# Altium schematic symbol library C64Interface.SchLib: 38 symbols
Pins are listed as number, name and electrical type; pins without a type are passive.

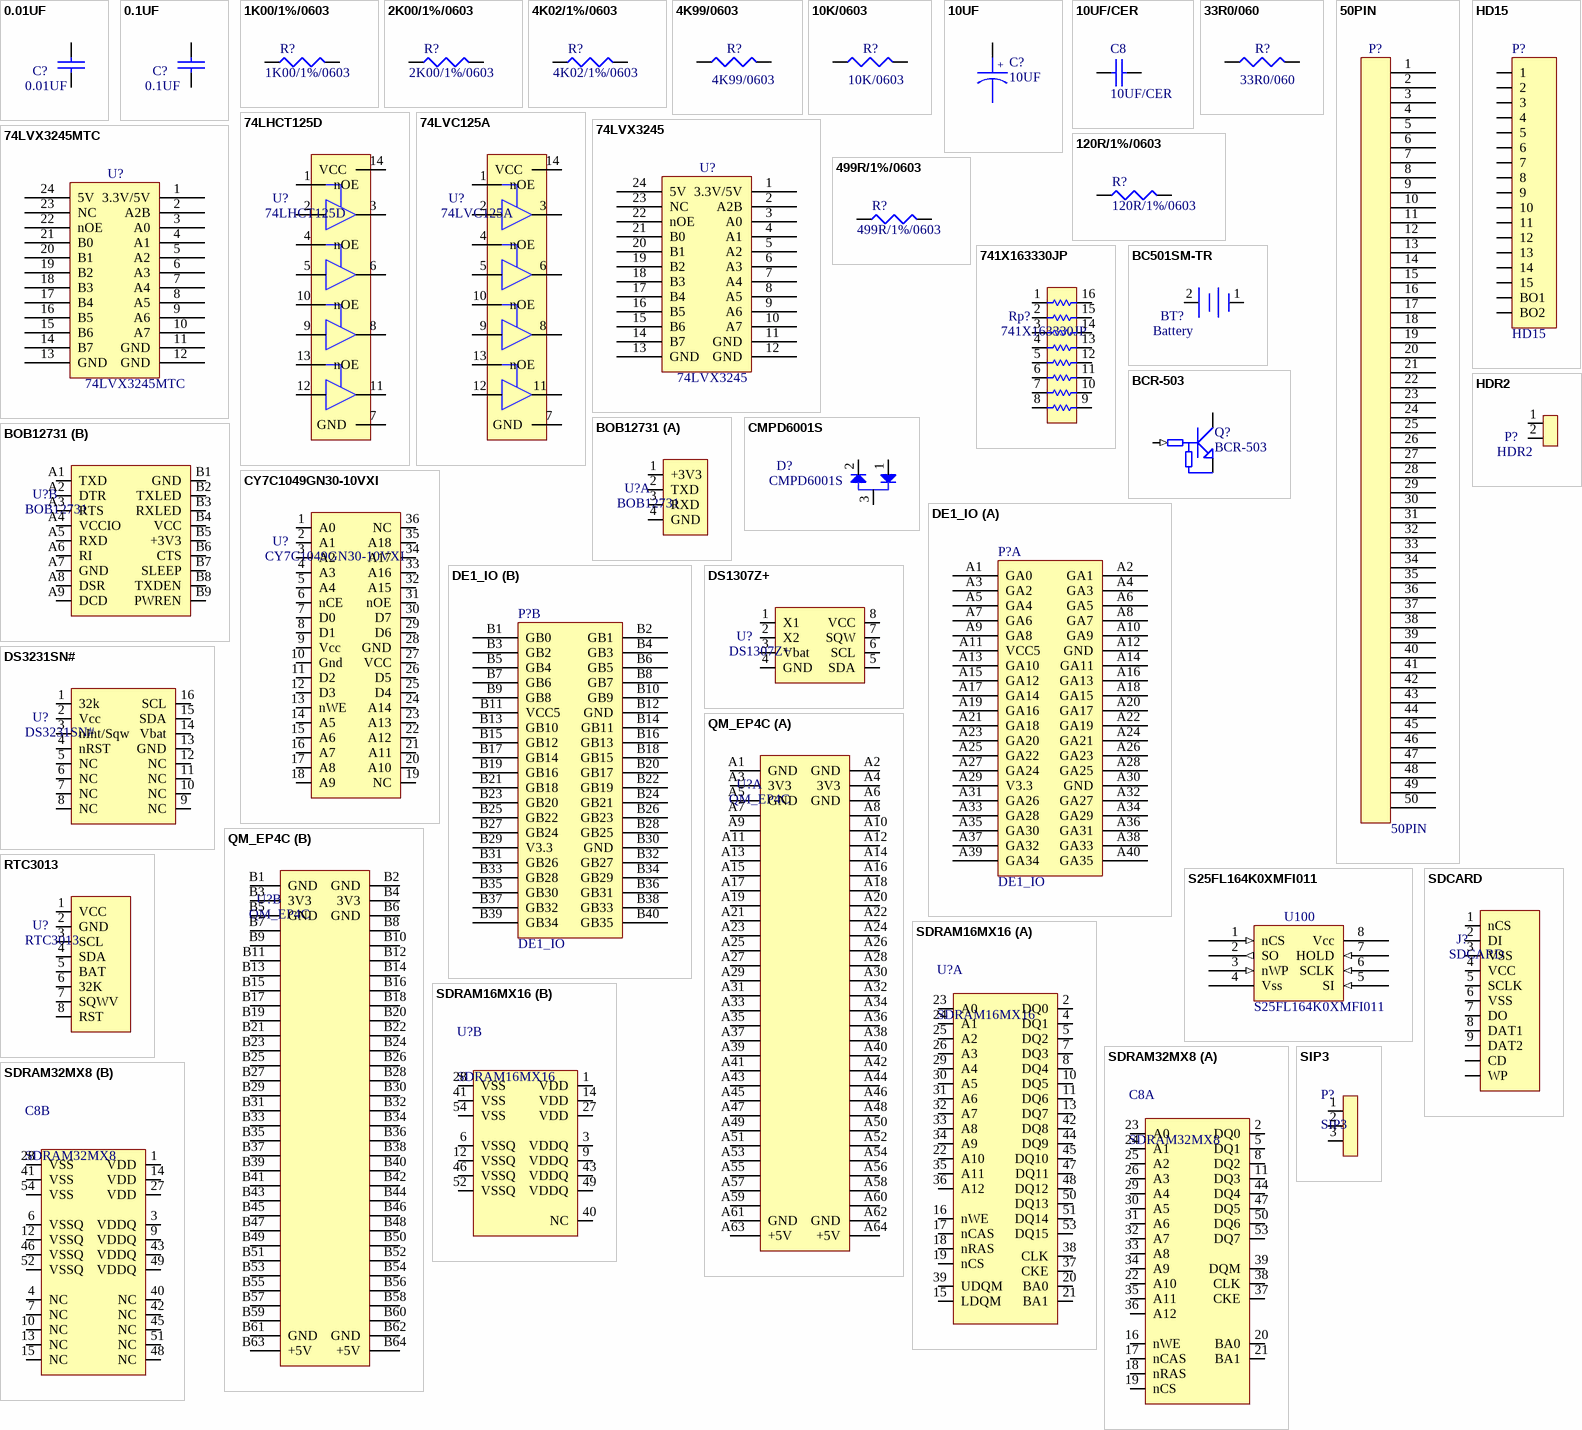
[diagram p0: symbols 0.01UF to SIP3]

## 0.01UF
designator C?
10000pF ±10% 10V Ceramic Capacitor X7R 0603 (1608 Metric); MFG: Kemet; MFG PN: C0603C103K8RACTU; DK PN: 399-11132-1-ND; Price: 1.17
footprint 0603
pins: 1, 2

## 0.1UF
designator C?
CAP .10UF 16V CERAMIC X7R 0603; MFG: Kemet; MFG PN: C0603C104K4RACTU; DK PN: 399-1096-1-ND; Price: 1.17
footprint 0603
pins: 1, 2

## 1K00/1%/0603
designator R?
1 kOhms ±1% 0.1W, 1/10W Chip Resistor 0603 (1608 Metric) Moisture Resistant Thick Film; MFG: Yeago; MFG PN: RC0603FR-071KL; DK PN: 311-1.00KHRCT-ND
footprint 0603
pins: 1, 2

## 2K00/1%/0603
designator R?
2 kOhms ±1% 0.1W, 1/10W Chip Resistor 0603 (1608 Metric) Moisture Resistant Thick Film; MFG: Yeago; MFG PN: RC0603FR-072KL; DK PN: 311-2.00KHRCT-ND
footprint 0603
pins: 1, 2

## 4K02/1%/0603
designator R?
4.02 kOhms ±1% 0.1W, 1/10W Chip Resistor 0603 (1608 Metric) Moisture Resistant Thick Film; MFG: Yeago; MFG PN: RC0603FR-074K02L; DK PN: 311-4.02KHRCT-ND
footprint 0603
pins: 1, 2

## 4K99/0603
designator R?
RES 4.99K OHM 1/10W 1% 0603 SMD; MFG: Dale/Vishay; MFG PN: CRCW06034K99FKEAC; DK PN: 541-3985-1-ND; Price: 5.02
footprint 0603
pins: 1, 2

## 10K/0603
designator R?
RES 10.0K OHM 1/10W 1% 0603 SMD; MFG: Dale/Vishay; MFG PN: CRCW060310K0FKEA; DK PN: 541-10.0KHCT-ND; Price: 5.02
footprint 0603
pins: 1, 2

## 10UF
designator C?
CAP TANTALUM 10UF 16V 10% SMD; MFG: Kemet; MFG PN: B45196H3106K109; DK PN: 495-2236-1-ND; Price: 15.58
footprint 1206
pins: 1, 2
text: +

## 10UF/CER
designator C8
10µF ±10% 25V Ceramic Capacitor X7S 0805; Text Field1: Murata; Text Field2: GRM21BC71E106KE11L; Text Field3: 490-10496-1-ND
footprint 0805
pins: 1, 2

## 33R0/060
designator R?
33 Ohms ±1% 0.1W, 1/10W Chip Resistor 0603 (1608 Metric) Moisture Resistant Thick Film; MFG: Yaego; MFG PN: RC0603FR-0733RL; DK PN: 311-33.0HRCT-ND
footprint 0603
pins: 1, 2

## 50PIN
designator P?
MFG: *; MFG PN: *; DK PN: *; Price: *
footprint IDC50
footprint IDC50_40
pins: 1, 2, 3, 4, 5, 6, 7, 8, 9, 10, 11, 12, 13, 14, 15, 16, 17, 18, 19, 20, 21, 22, 23, 24, 25, 26, 27, 28, 29, 30, 31, 32, 33, 34, 35, 36, 37, 38, 39, 40, 41, 42, 43, 44, 45, 46, 47, 48, 49, 50

## 74LHCT125D
designator U?
Buffer, Non-Inverting 4 Element 1 Bit per Element 3-State Output 14-SOIC; MFG: Nexpiria; MFG PN: 74HCT125D,653; DK PN: 1727-2834-2-ND; Price: 1.17
footprint SOP14
pins: 1 nOE, 2, 3, 4 nOE, 5, 6, 7 GND, 8, 9, 10 nOE, 11, 12, 13 nOE, 14 VCC

## 74LVC125A
designator U?
Buffer, Non-Inverting 4 Element 1 Bit per Element 3-State Output 14-SOIC; MFG: TI; MFG PN: SN74LVC125ADR; DK PN: 296-8453-2-ND; Price: 1.17
footprint SOP14
pins: 1 nOE, 2, 3, 4 nOE, 5, 6, 7 GND, 8, 9, 10 nOE, 11, 12, 13 nOE, 14 VCC

## 74LVX3245
designator U?
MFG: Fairchild; MFG PN: 74LVX3245WM; DK PN: 74LVX3245WM-ND; Price: 1.33
footprint SOL-24
pins: 1 3.3V/5V, 2 A2B, 3 A0, 4 A1, 5 A2, 6 A3, 7 A4, 8 A5, 9 A6, 10 A7, 11 GND, 12 GND, 13 GND, 14 B7, 15 B6, 16 B5, 17 B4, 18 B3, 19 B2, 20 B1, 21 B0, 22 nOE, 23 NC, 24 5V

## 74LVX3245MTC
designator U?
Voltage Level Translator Bidirectional 1 Circuit 8 Channel 24-TSSOP; MFG: Fairchild; DK PN: 74LVX3245MTC-ND; MFG PN: 74LVX3245MTC; Price: 1.33
footprint TSOP24
pins: 1 3.3V/5V, 2 A2B, 3 A0, 4 A1, 5 A2, 6 A3, 7 A4, 8 A5, 9 A6, 10 A7, 11 GND, 12 GND, 13 GND, 14 B7, 15 B6, 16 B5, 17 B4, 18 B3, 19 B2, 20 B1, 21 B0, 22 nOE, 23 NC, 24 5V

## 120R/1%/0603
designator R?
120 Ohms ±1% 0.1W, 1/10W Chip Resistor 0603 (1608 Metric) Moisture Resistant Thick Film; MFG: Yaego; MFG PN: RC0603FR-07120RL; DK PN: 311-120HRCT-ND
footprint 0603
pins: 1, 2

## 499R/1%/0603
designator R?
499 Ohms ±1% 0.1W, 1/10W Chip Resistor 0603 (1608 Metric) Moisture Resistant Thick Film; MFG: Yeago; MFG PN: RC0603FR-07499RL; DK PN: 311-499HRCT-ND
footprint 0603
pins: 1, 2

## 741X163330JP
designator Rp?
RES ARRAY 8 RES 33 OHM 1506; MFG: CTS; DK PN: 741X163330JPCT-ND; MFG PN: 741X163330JP; Price: 1.17
footprint RP741X163
pins: 1, 2, 3, 4, 5, 6, 7, 8, 9, 10, 11, 12, 13, 14, 15, 16

## BC501SM-TR
designator BT?, comment Battery
Battery Holder (Open) Coin, 12.0mm 1 Cell SMD (SMT) Tab; MFG: MPD; MFG PN: BC501SM-TR; DK PN: BC501SM-TR-ND; Price: 1.17
footprint BC501SM
pins: 1, 2

## BCR-503
designator Q?
TRANSISTOR NPN DGTL 50V SOT-23; MFG: Infineon; MFG PN: BCR 503 E6327; DK PN: BCR503E6327INDKR-ND; Price: 0.58000
footprint SOT-23
pins: 1 BASE (in), 2 EMITTER, 3 COLLECTOR

## BOB12731
designator U?
FT232R USB 2.0 to UART Interface Evaluation Board; MFG: SparkFun; MFG PN: BOB-12731; DK PN: 1568-1195-ND; Price: 1.17
footprint BOB12731
part A pins: 1 +3V3, 2 TXD, 3 RXD, 4 GND
part B pins: A1 TXD, A2 DTR, A3 RTS, A4 VCCIO, A5 RXD, A6 RI, A7 GND, A8 DSR, A9 DCD, B1 GND, B2 TXLED, B3 RXLED, B4 VCC, B5 +3V3, B6 CTS, B7 SLEEP, B8 TXDEN, B9 PWREN

## CMPD6001S
designator D?
Diode Array 1 Pair Series Connection Standard 75V 250mA Surface Mount TO-236-3, SC-59, SOT-23-3; MFG PN: CMPD6001S TR; DK PN: CMPD6001S CT-ND; MFG: Central Semiconductor; FOOTPRINT: SOT23; Populate: *
footprint SOT-23
pins: 1, 2, 3

## CY7C1049GN30-10VXI
designator U?
SRAM - Asynchronous Memory IC 4Mb (512K x 8) Parallel 10ns 36-SOJ; MFG: Cypress; DK PN: 428-4393-ND; MFG PN: CY7C1049GN30-10VXI; Price: 1.17
footprint SOJ36
pins: 1 A0, 2 A1, 3 A2, 4 A3, 5 A4, 6 nCE, 7 D0, 8 D1, 9 Vcc, 10 Gnd, 11 D2, 12 D3, 13 nWE, 14 A5, 15 A6, 16 A7, 17 A8, 18 A9, 19 NC, 20 A10, 21 A11, 22 A12, 23 A13, 24 A14, 25 D4, 26 D5, 27 VCC, 28 GND, 29 D6, 30 D7, 31 nOE, 32 A15, 33 A16, 34 A17, 35 A18, 36 NC

## DE1_IO
designator P?
MFG: *; MFG PN: *; DK PN: *; Price: *
footprint DE1_IO
part A pins: A1 GA0, A2 GA1, A3 GA2, A4 GA3, A5 GA4, A6 GA5, A7 GA6, A8 GA7, A9 GA8, A10 GA9, A11 VCC5, A12 GND, A13 GA10, A14 GA11, A15 GA12, A16 GA13, A17 GA14, A18 GA15, A19 GA16, A20 GA17, A21 GA18, A22 GA19, A23 GA20, A24 GA21, A25 GA22, A26 GA23, A27 GA24, A28 GA25, A29 V3.3, A30 GND, A31 GA26, A32 GA27, A33 GA28, A34 GA29, A35 GA30, A36 GA31, A37 GA32, A38 GA33, A39 GA34, A40 GA35
part B pins: B1 GB0, B2 GB1, B3 GB2, B4 GB3, B5 GB4, B6 GB5, B7 GB6, B8 GB7, B9 GB8, B10 GB9, B11 VCC5, B12 GND, B13 GB10, B14 GB11, B15 GB12, B16 GB13, B17 GB14, B18 GB15, B19 GB16, B20 GB17, B21 GB18, B22 GB19, B23 GB20, B24 GB21, B25 GB22, B26 GB23, B27 GB24, B28 GB25, B29 V3.3, B30 GND, B31 GB26, B32 GB27, B33 GB28, B34 GB29, B35 GB30, B36 GB31, B37 GB32, B38 GB33, B39 GB34, B40 GB35

## DS1307Z+
designator U?
Real Time Clock (RTC) IC Clock/Calendar 56B I²C, 2-Wire Serial 8-SOIC (0.154", 3.90mm Width); MFG: Maxim; DK PN: DS1307Z+-ND; MFG PN: DS1307Z+; Price: 3.73
footprint SO-8
pins: 1 X1, 2 X2, 3 Vbat, 4 GND, 5 SDA, 6 SCL, 7 SQW, 8 VCC

## DS3231SN#
designator U?
Real Time Clock (RTC) IC Clock/Calendar I²C, 2-Wire Serial 16-SOIC (0.295", 7.50mm Width); MFG: Maxim; DK PN: DS3231SN#-ND; MFG PN: DS3231SN#; Price: 9.79
footprint SOL16
pins: 1 32k, 2 Vcc, 3 nInt/Sqw, 4 nRST, 5 NC, 6 NC, 7 NC, 8 NC, 9 NC, 10 NC, 11 NC, 12 NC, 13 GND, 14 Vbat, 15 SDA, 16 SCL

## HD15
designator P?
CONN DSUB HD RCPT 15POS R/A SLDR; Text Field1: Amphenol; Text Field2: ICD15S13E4GX00LF; Text Field3: 609-5181-ND
footprint DB15FLC
pins: 1, 2, 3, 4, 5, 6, 7, 8, 9, 10, 11, 12, 13, 14, 15, BO1, BO2

## HDR2
designator P?
footprint HDR2
pins: 1, 2

## QM_EP4C
designator U?
footprint QMTECH_EP4CE15
part A pins: A1 GND, A2 GND, A3 3V3, A4 3V3, A5 GND, A6 GND, A7, A8, A9, A10, A11, A12, A13, A14, A15, A16, A17, A18, A19, A20, A21, A22, A23, A24, A25, A26, A27, A28, A29, A30, A31, A32, A33, A34, A35, A36, A37, A38, A39, A40, A41, A42, A43, A44, A45, A46, A47, A48, A49, A50, A51, A52, A53, A54, A55, A56, A57, A58, A59, A60, A61 GND, A62 GND, A63 +5V, A64 +5V
part B pins: B1 GND, B2 GND, B3 3V3, B4 3V3, B5 GND, B6 GND, B7, B8, B9, B10, B11, B12, B13, B14, B15, B16, B17, B18, B19, B20, B21, B22, B23, B24, B25, B26, B27, B28, B29, B30, B31, B32, B33, B34, B35, B36, B37, B38, B39, B40, B41, B42, B43, B44, B45, B46, B47, B48, B49, B50, B51, B52, B53, B54, B55, B56, B57, B58, B59, B60, B61 GND, B62 GND, B63 +5V, B64 +5V

## RTC3013
designator U?
DS3231 Real Time Clock (RTC) Timing Evaluation Board; MFG: AdaFruit; MFG PN: 3013; DK PN: 1528-1598-ND; Price: 1.17
footprint RTC3013
pins: 1 VCC, 2 GND, 3 SCL, 4 SDA, 5 BAT, 6 32K, 7 SQWV, 8 RST

## S25FL164K0XMFI011
designator U100
IC FLASH 64MBIT 108MHZ 8SOIC; Text Field1: Cyoress; Text Field3: 1274-1097-ND; Text Field2: S25FL164K0XMFI011
footprint SOC008
pins: 1 nCS (in), 2 SO (out), 3 nWP (in), 4 Vss (power), 5 SI (in), 6 SCLK (in), 7 HOLD (in), 8 Vcc (power)

## SDCARD
designator J?
11 (9 + 2) Position Card Connector Secure Digital - SD Surface Mount, Right Angle Gold; MFG: TE; MFG PN: 2041021-4; DK PN: A101492CT-ND; Price: 3.69
footprint SDCARD2041021
pins: 1 nCS, 2 DI, 3 VSS, 4 VCC, 5 SCLK, 6 VSS, 7 DO, 8 DAT1, 9 DAT2, CD, WP

## SDRAM16MX16
designator U?
SDRAM Memory IC 256Mb (16M x 16) Parallel 166MHz 5ns 54-TSOP II; MFG: Winbond; MFG PN: W9825G6KH-6; DK PN: W9825G6KH-6-ND
footprint SOP54
part A pins: 2 DQ0, 4 DQ1, 5 DQ2, 7 DQ3, 8 DQ4, 10 DQ5, 11 DQ6, 13 DQ7, 15 LDQM, 16 nWE, 17 nCAS, 18 nRAS, 19 nCS, 20 BA0, 21 BA1, 22 A10, 23 A0, 24 A1, 25 A2, 26 A3, 29 A4, 30 A5, 31 A6, 32 A7, 33 A8, 34 A9, 35 A11, 36 A12, 37 CKE, 38 CLK, 39 UDQM, 42 DQ8, 44 DQ9, 45 DQ10, 47 DQ11, 48 DQ12, 50 DQ13, 51 DQ14, 53 DQ15
part B pins: 1 VDD, 3 VDDQ, 6 VSSQ, 9 VDDQ, 12 VSSQ, 14 VDD, 27 VDD, 28 VSS, 40 NC, 41 VSS, 43 VDDQ, 46 VSSQ, 49 VDDQ, 52 VSSQ, 54 VSS

## SDRAM32MX8
designator C8
SDRAM Memory IC 256Mb (32M x 8) Parallel 166MHz 5.5ns 54-TSOP II; MFG: Alliance Memory; MFG PN: AS4C32M8SA-6TIN; DK PN: 1450-1440-ND
footprint SOP54
part A pins: 2 DQ0, 5 DQ1, 8 DQ2, 11 DQ3, 16 nWE, 17 nCAS, 18 nRAS, 19 nCS, 20 BA0, 21 BA1, 22 A10, 23 A0, 24 A1, 25 A2, 26 A3, 29 A4, 30 A5, 31 A6, 32 A7, 33 A8, 34 A9, 35 A11, 36 A12, 37 CKE, 38 CLK, 39 DQM, 44 DQ4, 47 DQ5, 50 DQ6, 53 DQ7
part B pins: 1 VDD, 3 VDDQ, 4 NC, 6 VSSQ, 7 NC, 9 VDDQ, 10 NC, 12 VSSQ, 13 NC, 14 VDD, 15 NC, 27 VDD, 28 VSS, 40 NC, 41 VSS, 42 NC, 43 VDDQ, 45 NC, 46 VSSQ, 48 NC, 49 VDDQ, 51 NC, 52 VSSQ, 54 VSS

## SIP3
designator P?
footprint SIP3
pins: 1, 2, 3

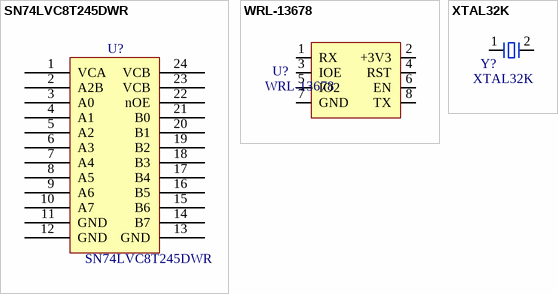
[diagram p1: symbols SN74LVC8T245DWR to XTAL32K]

## SN74LVC8T245DWR
designator U?
Voltage Level Translator Bidirectional 1 Circuit 8 Channel 24-SOIC; MFG: TI; DK PN: 296-23280-1-ND; MFG PN: SN74LVC8T245DWR; Price: 1.02
footprint SOL-24
pins: 1 VCA, 2 A2B, 3 A0, 4 A1, 5 A2, 6 A3, 7 A4, 8 A5, 9 A6, 10 A7, 11 GND, 12 GND, 13 GND, 14 B7, 15 B6, 16 B5, 17 B4, 18 B3, 19 B2, 20 B1, 21 B0, 22 nOE, 23 VCB, 24 VCB

## WRL-13678
designator U?
WiFi 802.11b/g/n Transceiver Module 2.4GHz ~ 2.48GHz Integrated, Trace Through Hole; MFG: SparkFun; DK PN: 1568-1235-ND; MFG PN: WRL-13678; Price: 1.17
footprint WRL13678
pins: 1 RX, 2 +3V3, 3 IOE, 4 RST, 5 IO2, 6 EN, 7 GND, 8 TX

## XTAL32K
designator Y?
32.768kHz ±5ppm Crystal 12.5pF 35 kOhms Cylindrical Can, Radial; MFG: CFS; MFG PN: CFS-20632768HZFB; DK PN: 300-8763-ND; Price: 0.60
footprint 0603
pins: 1, 2